# Altium integrated library Simulation Generic Components.IntLib: 218 symbols (part 1 of 7)
Pins are listed as number, name and electrical type; pins without a type are passive.

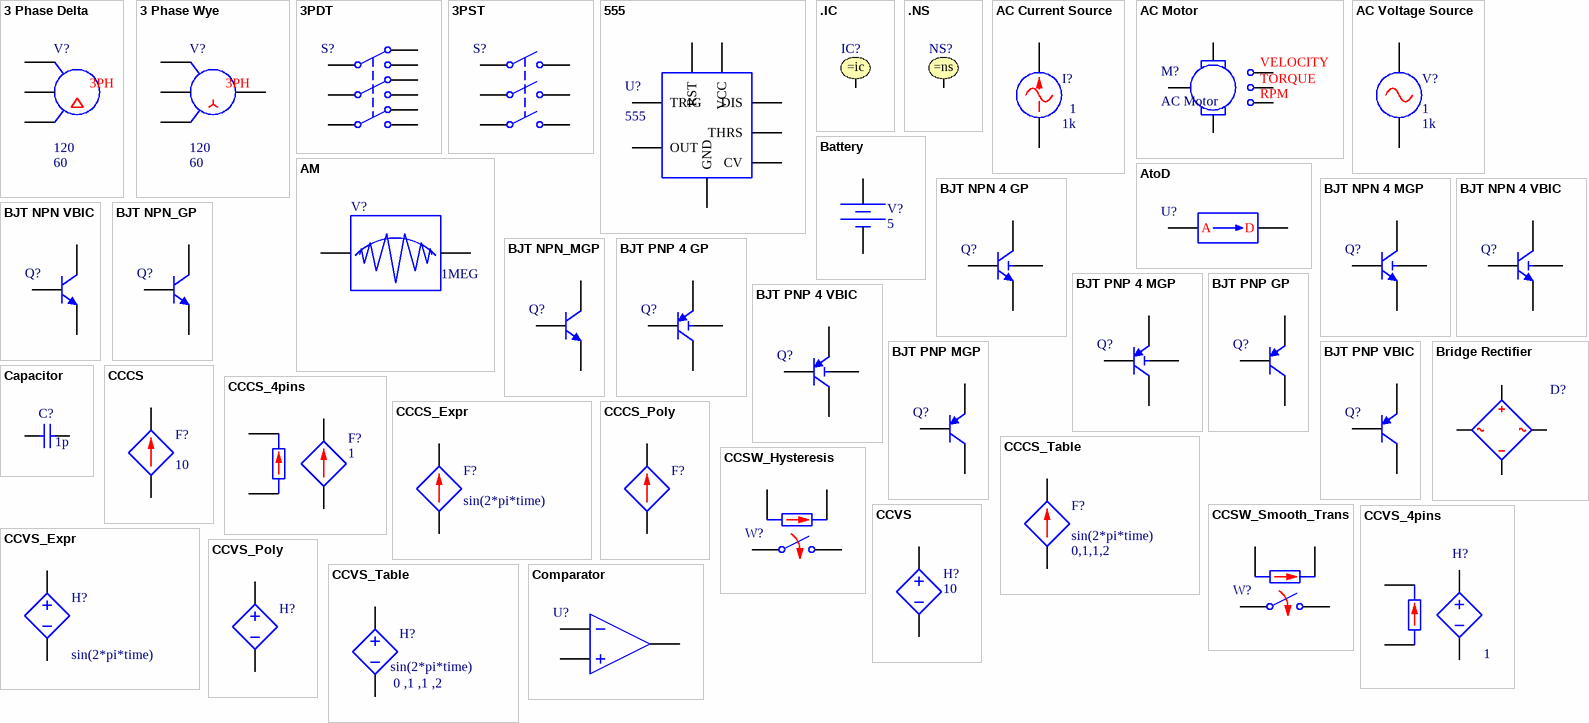
[diagram p0: symbols 3 Phase Delta to Comparator]

## 3 Phase Delta
designator V?, comment V_RMS: 120  FREQ: 60  (hidden comment: 3-Phase Delta Voltage Source)
SimulationGenericComponent: True
simulation model 3PHAZE_DELTA (THREE_PHAZE_DELTA)
pins: 1, 2, 3
text: 3PH

## 3 Phase Wye
designator V?, comment V_RMS: 120  FREQ: 60  (hidden comment: 3-Phase Wye Voltage Source)
SimulationGenericComponent: True
simulation model 3PHAZE_WYE_NEUTRAL
pins: 1, 2, 3, 4
text: 3PH

## 3PDT
designator S?, comment Triple-Pole, Double-Throw Switch  (value not drawn)
SimulationGenericComponent: True; Rclosed: 1m; Ropen: 1Meg; nodesUP_closed: 1
simulation model 3PDT_SWITCH
pins: 1, 2, 3, 4, 5, 6, 7, 8, 9

## 3PST
designator S?, comment Triple-Pole, Single-Throw Switch  (value not drawn)
SimulationGenericComponent: True; closed: 0; Rclosed: 1m; Ropen: 1Meg
simulation model 3PST_SWITCH
pins: 1, 2, 3, 4, 5, 6

## 555
designator U?
Timer 555; SimulationGenericComponent: True
simulation model 555
pins: 1 GND, 2 TRIG, 3 OUT, 4 RST, 5 CV, 6 THRS, 7 DIS, 8 VCC

## .IC
designator IC?, comment Initial Condition  (value not drawn)
SimulationGenericComponent: True
simulation model .ic (ControlStatement)
pins: 1

## .NS
designator NS?, comment Node Set  (value not drawn)
SimulationGenericComponent: True
simulation model .ns (ControlStatement)
pins: 1

## AC Current Source
designator I?  Freq: 1k  Amp: 1  (hidden comment: AC Current Source)
SimulationGenericComponent: True; DC: 0; Phase: 0
simulation model AC_CURRENT_SOURCE (AC Current Source)
pins: 1, 2

## AC Motor
designator M?
SimulationGenericComponent: True; NP: 2; J: .62; K: .97; LS: 29.4M; LR: 29.7M; RS: 67M; RR: 32M
simulation model AC_MOTOR
pins: 1, 2, 3, 4, 5, 6
text: VELOCITY; TORQUE; RPM

## AC Voltage Source
designator V?  Amp: 1  Freq: 1k  (hidden comment: AC Voltage Source)
SimulationGenericComponent: True; DC: 0; Phase: 0; Rser: 0; Cpar: 0
simulation model AC_VOLTAGE_SOURCE (C_VOLTAGE_SOURCE)
pins: 1, 2

## AM
designator V?, comment FC: 1MEG  (hidden comment: Amplitude Modulator Voltage Source)
SimulationGenericComponent: True; VC: 1; KA: 1; OFFSET: 1
simulation model AM_Voltage (AM_VOLTAGE-)
pins: 1 IN, 2 OUT

## AtoD
designator U?, comment AtoD Bridge  (value not drawn)
SimulationGenericComponent: True; fall_delay_inst: 1e-9; in_high_inst: 1; in_low_inst: 0; rise_delay_inst: 1e-9
simulation model adc_ckt (Model Description)
pins: 1, 2
text: A; D

## Battery
designator V?, comment DC Magnitude: 5  (hidden comment: Constant Voltage Source)
SimulationGenericComponent: True
simulation model Vconst (Voltage and Curent Souces)
pins: 1, 2

## BJT NPN 4 GP
designator Q?, comment Bipolar NPN 4 Pins Transistor Gummel-Poon Model  (value not drawn)
SimulationGenericComponent: True; BF: 100; AF: 0; BR: 1; EG: 1.11; FC: 0.5; IS: 1e-16; MJC: 0.33; NC: 2; NE: 1.5; TNOM: 27; VBC_MAX: 1e99; VJC: 0.75; XTI: 3; CJC: 0; CJE: 0; CJS: 0; CTC: 0; CTE: 0; CTS: 0; IKF: 0; IKR: 0; IRB: 0; ISC: 0; ISE: 0; ISS: 0; ITF: 0; KF: 0; MJE: 0.33; MJS: 0; NF: 1; NKF: 0.5; NR: 1; NS: 1; PTF: 0; RB: 0; RBM: 0; RC: 0; RE: 0; SUBS: 1; TBF1: 0; TBF2: 0; TBR1: 0; TBR2: 0; TF: 0; TIKF1: 0; TIKF2: 0; TIKR1: 0; TIKR2: 0; TIRB1: 0; TIRB2: 0; TIS1: 0; TIS2: 0; TISC1: 0; TISC2: 0; TISE1: 0; TISE2: 0; TITF1: 0; TITF2: 0; TLEV: 0; TLEVC: 0; TMJC1: 0; TMJC2: 0; TMJE1: 0; TMJE2: 0; TMJS1: 0; TMJS2: 0; TNC1: 0; TNC2: 0; TNE1: 0; TNE2: 0; TNF1: 0; TNF2: 0; TNR1: 0; TNR2: 0; TNS1: 0; TNS2: 0; TR: 0; TRB1: 0; TRB2: 0; TRC1: 0; TRC2: 0; TRE1: 0; TRE2: 0; TRM1: 0; TRM2: 0; TTF1: 0; TTF2: 0; TTR1: 0; TTR2: 0; TVAF1: 0; TVAF2: 0; TVAR1: 0; TVAR2: 0; TVJC: 0; TVJE: 0; TVJS: 0; VAF: 0; VAR: 0; VBE_MAX: 1e99; VCE_MAX: 1e99; VJE: 0.75; VJS: 0.75; VTF: 0; XCJC: 1; XTB: 0; XTF: 0
simulation model NPN_Gummel_Poon (NGSPICE_NPN_MOD_GUMMEL_POON)
pins: 1 C, 2 B, 3 E, 4 S

## BJT NPN 4 MGP
designator Q?, comment Bipolar NPN 4 Pins Transistor Modified Version of the Gummel-Poon Model  (value not drawn)
SimulationGenericComponent: True; BF: 100; AF: 0; BR: 1; EG: 1.11; FC: 0.5; IS: 1e-16; MJC: 0.33; NC: 2; NE: 1.5; TNOM: 27; VBC_MAX: 1e99; VJC: 0.75; XTI: 3; CJC: 0; CJE: 0; CJS: 0; CTC: 0; CTE: 0; CTS: 0; IKF: 0; IKR: 0; IRB: 0; ISC: 0; ISE: 0; ISS: 0; ITF: 0; KF: 0; MJE: 0.33; MJS: 0; NF: 1; NKF: 0.5; NR: 1; NS: 1; PTF: 0; RB: 0; RBM: 0; RC: 0; RE: 0; SUBS: 1; TBF1: 0; TBF2: 0; TBR1: 0; TBR2: 0; TF: 0; TIKF1: 0; TIKF2: 0; TIKR1: 0; TIKR2: 0; TIRB1: 0; TIRB2: 0; TIS1: 0; TIS2: 0; TISC1: 0; TISC2: 0; TISE1: 0; TISE2: 0; TITF1: 0; TITF2: 0; TLEV: 0; TLEVC: 0; TMJC1: 0; TMJC2: 0; TMJE1: 0; TMJE2: 0; TMJS1: 0; TMJS2: 0; TNC1: 0; TNC2: 0; TNE1: 0; TNE2: 0; TNF1: 0; TNF2: 0; TNR1: 0; TNR2: 0; TNS1: 0; TNS2: 0; TR: 0; TRB1: 0; TRB2: 0; TRC1: 0; TRC2: 0; TRE1: 0; TRE2: 0; TRM1: 0; TRM2: 0; TTF1: 0; TTF2: 0; TTR1: 0; TTR2: 0; TVAF1: 0; TVAF2: 0; TVAR1: 0; TVAR2: 0; TVJC: 0; TVJE: 0; TVJS: 0; VAF: 0; VAR: 0; VBE_MAX: 1e99; VCE_MAX: 1e99; VJE: 0.75; VJS: 0.75; VTF: 0; XCJC: 1; XTB: 0; XTF: 0
simulation model NPN_Mod_Gummel_Poon (NGSPICE_NPN_MOD_GUMMEL_POON)
pins: 1 C, 2 B, 3 E, 4 S

## BJT NPN 4 VBIC
designator Q?, comment Bipolar NPN 4 Pins Transistor VBIC Model  (value not drawn)
SimulationGenericComponent: True; AFN: 1; AJC: -0.5; ART: 0.1; AVC1: 0; EA: 1.12; FC: 0.9; IBBE: 1e-06; IBCI: 1e-16; IBEI: 1e-18; MC: 0.33; NCN: 2; NKF: 0.5; PC: 0.75; TNOM: 27; VERS: 1.2; XII: 3; AJE: -0.5; AJS: -0.5; AVC2: 0; BFN: 1; CBCO: 0; CBEO: 0; CCSO: 0; CJC: 0; CJCP: 0; CJE: 0; CJEP: 0; CTH: 0; DEAR: 0; EAIC: 1.12; EAIE: 1.12; EAIS: 1.12; EANC: 1.12; EANE: 1.12; EANS: 1.12; EAP: 1.12; EBBE: 0; GAMM: 0; HRCF: 1; IBCIP: 0; IBCN: 0; IBCNP: 0; IBEIP: 0; IBEN: 0; IBENP: 0; IKF: 0; IKP: 0; IKR: 0; IS: 1e-16; ISP: 0; ISRR: 1; ITF: 0; KFN: 0; ME: 0.33; MS: 0.33; NBBE: 1; NCI: 1; NCIP: 1; NCNP: 2; NEI: 1; NEN: 2; NF: 1; NFP: 1; NR: 1; PE: 0.75; PS: 0.75; QBM: 0; QCO: 0; QTF: 0; RBI: 0.1; RBP: 0.1; RBX: 0; RCI: 0.1; RCX: 0; RE: 0; RS: 0; RTH: 0; TAVC: 0; TD: 0; TF: 0; TNBBE: 0; TNF: 0; TR: 0; TVBBE1: 0; TVBBE2: 0; VBBE: 0; VEF: 0; VER: 0; VO: 0; VREF: 0; VRT: 0; VTF: 0; WBE: 1; WSP: 1; XIKF: 0; XIN: 3; XIS: 3; XISR: 0; XRBI: 0; XRBP: 0; XRBX: 0; XRCI: 0; XRCX: 0; XRE: 0; XRS: 0; XTF: 0; XVO: 0
simulation model NPN_VBIC (NGSPICE_NPN_MOD_GUMMEL_POON)
pins: 1 C, 2 B, 3 E, 4 S

## BJT NPN VBIC
designator Q?, comment Bipolar NPN 3 Pins Transistor VBIC Model  (value not drawn)
SimulationGenericComponent: True; AFN: 1; AJC: -0.5; ART: 0.1; AVC1: 0; EA: 1.12; FC: 0.9; IBBE: 1e-06; IBCI: 1e-16; IBEI: 1e-18; MC: 0.33; NCN: 2; NKF: 0.5; PC: 0.75; TNOM: 27; VERS: 1.2; XII: 3; AJE: -0.5; AJS: -0.5; AVC2: 0; BFN: 1; CBCO: 0; CBEO: 0; CCSO: 0; CJC: 0; CJCP: 0; CJE: 0; CJEP: 0; CTH: 0; DEAR: 0; EAIC: 1.12; EAIE: 1.12; EAIS: 1.12; EANC: 1.12; EANE: 1.12; EANS: 1.12; EAP: 1.12; EBBE: 0; GAMM: 0; HRCF: 1; IBCIP: 0; IBCN: 0; IBCNP: 0; IBEIP: 0; IBEN: 0; IBENP: 0; IKF: 0; IKP: 0; IKR: 0; IS: 1e-16; ISP: 0; ISRR: 1; ITF: 0; KFN: 0; ME: 0.33; MS: 0.33; NBBE: 1; NCI: 1; NCIP: 1; NCNP: 2; NEI: 1; NEN: 2; NF: 1; NFP: 1; NR: 1; PE: 0.75; PS: 0.75; QBM: 0; QCO: 0; QTF: 0; RBI: 0.1; RBP: 0.1; RBX: 0; RCI: 0.1; RCX: 0; RE: 0; RS: 0; RTH: 0; TAVC: 0; TD: 0; TF: 0; TNBBE: 0; TNF: 0; TR: 0; TVBBE1: 0; TVBBE2: 0; VBBE: 0; VEF: 0; VER: 0; VO: 0; VREF: 0; VRT: 0; VTF: 0; WBE: 1; WSP: 1; XIKF: 0; XIN: 3; XIS: 3; XISR: 0; XRBI: 0; XRBP: 0; XRBX: 0; XRCI: 0; XRCX: 0; XRE: 0; XRS: 0; XTF: 0; XVO: 0
simulation model NPN_VBIC (NGSPICE_NPN_MOD_GUMMEL_POON)
pins: 1 C, 2 B, 3 E

## BJT NPN_GP
designator Q?, comment Bipolar NPN 3 Pins Transistor Gummel-Poon Model  (value not drawn)
SimulationGenericComponent: True; BF: 100; AF: 0; BR: 1; EG: 1.11; FC: 0.5; IS: 1e-16; MJC: 0.33; NC: 2; NE: 1.5; TNOM: 27; VBC_MAX: 1e99; VJC: 0.75; XTI: 3; CJC: 0; CJE: 0; CJS: 0; CTC: 0; CTE: 0; CTS: 0; IKF: 0; IKR: 0; IRB: 0; ISC: 0; ISE: 0; ISS: 0; ITF: 0; KF: 0; MJE: 0.33; MJS: 0; NF: 1; NKF: 0.5; NR: 1; NS: 1; PTF: 0; RB: 0; RBM: 0; RC: 0; RE: 0; SUBS: 1; TBF1: 0; TBF2: 0; TBR1: 0; TBR2: 0; TF: 0; TIKF1: 0; TIKF2: 0; TIKR1: 0; TIKR2: 0; TIRB1: 0; TIRB2: 0; TIS1: 0; TIS2: 0; TISC1: 0; TISC2: 0; TISE1: 0; TISE2: 0; TITF1: 0; TITF2: 0; TLEV: 0; TLEVC: 0; TMJC1: 0; TMJC2: 0; TMJE1: 0; TMJE2: 0; TMJS1: 0; TMJS2: 0; TNC1: 0; TNC2: 0; TNE1: 0; TNE2: 0; TNF1: 0; TNF2: 0; TNR1: 0; TNR2: 0; TNS1: 0; TNS2: 0; TR: 0; TRB1: 0; TRB2: 0; TRC1: 0; TRC2: 0; TRE1: 0; TRE2: 0; TRM1: 0; TRM2: 0; TTF1: 0; TTF2: 0; TTR1: 0; TTR2: 0; TVAF1: 0; TVAF2: 0; TVAR1: 0; TVAR2: 0; TVJC: 0; TVJE: 0; TVJS: 0; VAF: 0; VAR: 0; VBE_MAX: 1e99; VCE_MAX: 1e99; VJE: 0.75; VJS: 0.75; VTF: 0; XCJC: 1; XTB: 0; XTF: 0
simulation model NPN_Gummel_Poon (NGSPICE_NPN_MOD_GUMMEL_POON)
pins: 1 C, 2 B, 3 E

## BJT NPN_MGP
designator Q?, comment Bipolar NPN 3 Pins Transistor Modified Version of the Gummel-Poon Model  (value not drawn)
BF: 100; AF: 0; BR: 1; EG: 1.11; FC: 0.5; IS: 1e-16; MJC: 0.33; NC: 2; NE: 1.5; TNOM: 27; VBC_MAX: 1e99; VJC: 0.75; XTI: 3; SimulationGenericComponent: True; CJC: 0; CJE: 0; CJS: 0; CTC: 0; CTE: 0; CTS: 0; IKF: 0; IKR: 0; IRB: 0; ISC: 0; ISE: 0; ISS: 0; ITF: 0; KF: 0; MJE: 0.33; MJS: 0; NF: 1; NKF: 0.5; NR: 1; NS: 1; PTF: 0; RB: 0; RBM: 0; RC: 0; RE: 0; SUBS: 1; TBF1: 0; TBF2: 0; TBR1: 0; TBR2: 0; TF: 0; TIKF1: 0; TIKF2: 0; TIKR1: 0; TIKR2: 0; TIRB1: 0; TIRB2: 0; TIS1: 0; TIS2: 0; TISC1: 0; TISC2: 0; TISE1: 0; TISE2: 0; TITF1: 0; TITF2: 0; TLEV: 0; TLEVC: 0; TMJC1: 0; TMJC2: 0; TMJE1: 0; TMJE2: 0; TMJS1: 0; TMJS2: 0; TNC1: 0; TNC2: 0; TNE1: 0; TNE2: 0; TNF1: 0; TNF2: 0; TNR1: 0; TNR2: 0; TNS1: 0; TNS2: 0; TR: 0; TRB1: 0; TRB2: 0; TRC1: 0; TRC2: 0; TRE1: 0; TRE2: 0; TRM1: 0; TRM2: 0; TTF1: 0; TTF2: 0; TTR1: 0; TTR2: 0; TVAF1: 0; TVAF2: 0; TVAR1: 0; TVAR2: 0; TVJC: 0; TVJE: 0; TVJS: 0; VAF: 0; VAR: 0; VBE_MAX: 1e99; VCE_MAX: 1e99; VJE: 0.75; VJS: 0.75; VTF: 0; XCJC: 1; XTB: 0; XTF: 0
simulation model NPN_Mod_Gummel_Poon (NGSPICE_NPN_MOD_GUMMEL_POON)
pins: 1 C, 2 B, 3 E

## BJT PNP 4 GP
designator Q?, comment Bipolar PNP 4 Pins Transistor Gummel-Poon Model  (value not drawn)
BF: 100; AF: 0; BR: 1; EG: 1.11; FC: 0.5; IS: 1e-16; MJC: 0.33; NC: 2; NE: 1.5; TNOM: 27; VBC_MAX: 1e99; VJC: 0.75; XTI: 3; SimulationGenericComponent: True; CJC: 0; CJE: 0; CJS: 0; CTC: 0; CTE: 0; CTS: 0; IKF: 0; IKR: 0; IRB: 0; ISC: 0; ISE: 0; ISS: 0; ITF: 0; KF: 0; MJE: 0.33; MJS: 0; NF: 1; NKF: 0.5; NR: 1; NS: 1; PTF: 0; RB: 0; RBM: 0; RC: 0; RE: 0; SUBS: 1; TBF1: 0; TBF2: 0; TBR1: 0; TBR2: 0; TF: 0; TIKF1: 0; TIKF2: 0; TIKR1: 0; TIKR2: 0; TIRB1: 0; TIRB2: 0; TIS1: 0; TIS2: 0; TISC1: 0; TISC2: 0; TISE1: 0; TISE2: 0; TITF1: 0; TITF2: 0; TLEV: 0; TLEVC: 0; TMJC1: 0; TMJC2: 0; TMJE1: 0; TMJE2: 0; TMJS1: 0; TMJS2: 0; TNC1: 0; TNC2: 0; TNE1: 0; TNE2: 0; TNF1: 0; TNF2: 0; TNR1: 0; TNR2: 0; TNS1: 0; TNS2: 0; TR: 0; TRB1: 0; TRB2: 0; TRC1: 0; TRC2: 0; TRE1: 0; TRE2: 0; TRM1: 0; TRM2: 0; TTF1: 0; TTF2: 0; TTR1: 0; TTR2: 0; TVAF1: 0; TVAF2: 0; TVAR1: 0; TVAR2: 0; TVJC: 0; TVJE: 0; TVJS: 0; VAF: 0; VAR: 0; VBE_MAX: 1e99; VCE_MAX: 1e99; VJE: 0.75; VJS: 0.75; VTF: 0; XCJC: 1; XTB: 0; XTF: 0
simulation model PNP_Gummel_Poon (NGSPICE_PNP_GUMMEL_POON)
pins: 1 C, 2 B, 3 E, 4 S

## BJT PNP 4 MGP
designator Q?, comment Bipolar PNP 4 Pins Transistor Modified Version of the Gummel-Poon Model  (value not drawn)
BF: 100; AF: 0; BR: 1; EG: 1.11; FC: 0.5; IS: 1e-16; MJC: 0.33; NC: 2; NE: 1.5; TNOM: 27; VBC_MAX: 1e99; VJC: 0.75; XTI: 3; SimulationGenericComponent: True; CJC: 0; CJE: 0; CJS: 0; CTC: 0; CTE: 0; CTS: 0; IKF: 0; IKR: 0; IRB: 0; ISC: 0; ISE: 0; ISS: 0; ITF: 0; KF: 0; MJE: 0.33; MJS: 0; NF: 1; NKF: 0.5; NR: 1; NS: 1; PTF: 0; RB: 0; RBM: 0; RC: 0; RE: 0; SUBS: 1; TBF1: 0; TBF2: 0; TBR1: 0; TBR2: 0; TF: 0; TIKF1: 0; TIKF2: 0; TIKR1: 0; TIKR2: 0; TIRB1: 0; TIRB2: 0; TIS1: 0; TIS2: 0; TISC1: 0; TISC2: 0; TISE1: 0; TISE2: 0; TITF1: 0; TITF2: 0; TLEV: 0; TLEVC: 0; TMJC1: 0; TMJC2: 0; TMJE1: 0; TMJE2: 0; TMJS1: 0; TMJS2: 0; TNC1: 0; TNC2: 0; TNE1: 0; TNE2: 0; TNF1: 0; TNF2: 0; TNR1: 0; TNR2: 0; TNS1: 0; TNS2: 0; TR: 0; TRB1: 0; TRB2: 0; TRC1: 0; TRC2: 0; TRE1: 0; TRE2: 0; TRM1: 0; TRM2: 0; TTF1: 0; TTF2: 0; TTR1: 0; TTR2: 0; TVAF1: 0; TVAF2: 0; TVAR1: 0; TVAR2: 0; TVJC: 0; TVJE: 0; TVJS: 0; VAF: 0; VAR: 0; VBE_MAX: 1e99; VCE_MAX: 1e99; VJE: 0.75; VJS: 0.75; VTF: 0; XCJC: 1; XTB: 0; XTF: 0
simulation model PNP_Mod_Gummel_Poon (NGSPICE_PNP_MOD_GUMMEL_POON)
pins: 1 C, 2 B, 3 E, 4 S

## BJT PNP 4 VBIC
designator Q?, comment Bipolar PNP 4 Pins Transistor VBIC Model  (value not drawn)
AFN: 1; AJC: -0.5; ART: 0.1; AVC1: 0; EA: 1.12; FC: 0.9; IBBE: 1e-06; IBCI: 1e-16; IBEI: 1e-18; MC: 0.33; NCN: 2; NKF: 0.5; PC: 0.75; TNOM: 27; VERS: 1.2; XII: 3; SimulationGenericComponent: True; AJE: -0.5; AJS: -0.5; AVC2: 0; BFN: 1; CBCO: 0; CBEO: 0; CCSO: 0; CJC: 0; CJCP: 0; CJE: 0; CJEP: 0; CTH: 0; DEAR: 0; EAIC: 1.12; EAIE: 1.12; EAIS: 1.12; EANC: 1.12; EANE: 1.12; EANS: 1.12; EAP: 1.12; EBBE: 0; GAMM: 0; HRCF: 1; IBCIP: 0; IBCN: 0; IBCNP: 0; IBEIP: 0; IBEN: 0; IBENP: 0; IKF: 0; IKP: 0; IKR: 0; IS: 1e-16; ISP: 0; ISRR: 1; ITF: 0; KFN: 0; ME: 0.33; MS: 0.33; NBBE: 1; NCI: 1; NCIP: 1; NCNP: 2; NEI: 1; NEN: 2; NF: 1; NFP: 1; NR: 1; PE: 0.75; PS: 0.75; QBM: 0; QCO: 0; QTF: 0; RBI: 0.1; RBP: 0.1; RBX: 0; RCI: 0.1; RCX: 0; RE: 0; RS: 0; RTH: 0; TAVC: 0; TD: 0; TF: 0; TNBBE: 0; TNF: 0; TR: 0; TVBBE1: 0; TVBBE2: 0; VBBE: 0; VEF: 0; VER: 0; VO: 0; VREF: 0; VRT: 0; VTF: 0; WBE: 1; WSP: 1; XIKF: 0; XIN: 3; XIS: 3; XISR: 0; XRBI: 0; XRBP: 0; XRBX: 0; XRCI: 0; XRCX: 0; XRE: 0; XRS: 0; XTF: 0; XVO: 0
simulation model PNP_VBIC (NGSPICE_PNP_VBIC)
pins: 1 C, 2 B, 3 E, 4 S

## BJT PNP GP
designator Q?, comment Bipolar PNP 3 Pins Transistor Gummel-Poon Model  (value not drawn)
BF: 100; AF: 0; BR: 1; EG: 1.11; FC: 0.5; IS: 1e-16; MJC: 0.33; NC: 2; NE: 1.5; TNOM: 27; VBC_MAX: 1e99; VJC: 0.75; XTI: 3; SimulationGenericComponent: True; CJC: 0; CJE: 0; CJS: 0; CTC: 0; CTE: 0; CTS: 0; IKF: 0; IKR: 0; IRB: 0; ISC: 0; ISE: 0; ISS: 0; ITF: 0; KF: 0; MJE: 0.33; MJS: 0; NF: 1; NKF: 0.5; NR: 1; NS: 1; PTF: 0; RB: 0; RBM: 0; RC: 0; RE: 0; SUBS: 1; TBF1: 0; TBF2: 0; TBR1: 0; TBR2: 0; TF: 0; TIKF1: 0; TIKF2: 0; TIKR1: 0; TIKR2: 0; TIRB1: 0; TIRB2: 0; TIS1: 0; TIS2: 0; TISC1: 0; TISC2: 0; TISE1: 0; TISE2: 0; TITF1: 0; TITF2: 0; TLEV: 0; TLEVC: 0; TMJC1: 0; TMJC2: 0; TMJE1: 0; TMJE2: 0; TMJS1: 0; TMJS2: 0; TNC1: 0; TNC2: 0; TNE1: 0; TNE2: 0; TNF1: 0; TNF2: 0; TNR1: 0; TNR2: 0; TNS1: 0; TNS2: 0; TR: 0; TRB1: 0; TRB2: 0; TRC1: 0; TRC2: 0; TRE1: 0; TRE2: 0; TRM1: 0; TRM2: 0; TTF1: 0; TTF2: 0; TTR1: 0; TTR2: 0; TVAF1: 0; TVAF2: 0; TVAR1: 0; TVAR2: 0; TVJC: 0; TVJE: 0; TVJS: 0; VAF: 0; VAR: 0; VBE_MAX: 1e99; VCE_MAX: 1e99; VJE: 0.75; VJS: 0.75; VTF: 0; XCJC: 1; XTB: 0; XTF: 0
simulation model PNP_Gummel_Poon (NGSPICE_PNP_GUMMEL_POON)
pins: 1 C, 2 B, 3 E

## BJT PNP MGP
designator Q?, comment Bipolar PNP 3 Pins Transistor Modified Version of the Gummel-Poon Model  (value not drawn)
BF: 100; AF: 0; BR: 1; EG: 1.11; FC: 0.5; IS: 1e-16; MJC: 0.33; NC: 2; NE: 1.5; TNOM: 27; VBC_MAX: 1e99; VJC: 0.75; XTI: 3; SimulationGenericComponent: True; CJC: 0; CJE: 0; CJS: 0; CTC: 0; CTE: 0; CTS: 0; IKF: 0; IKR: 0; IRB: 0; ISC: 0; ISE: 0; ISS: 0; ITF: 0; KF: 0; MJE: 0.33; MJS: 0; NF: 1; NKF: 0.5; NR: 1; NS: 1; PTF: 0; RB: 0; RBM: 0; RC: 0; RE: 0; SUBS: 1; TBF1: 0; TBF2: 0; TBR1: 0; TBR2: 0; TF: 0; TIKF1: 0; TIKF2: 0; TIKR1: 0; TIKR2: 0; TIRB1: 0; TIRB2: 0; TIS1: 0; TIS2: 0; TISC1: 0; TISC2: 0; TISE1: 0; TISE2: 0; TITF1: 0; TITF2: 0; TLEV: 0; TLEVC: 0; TMJC1: 0; TMJC2: 0; TMJE1: 0; TMJE2: 0; TMJS1: 0; TMJS2: 0; TNC1: 0; TNC2: 0; TNE1: 0; TNE2: 0; TNF1: 0; TNF2: 0; TNR1: 0; TNR2: 0; TNS1: 0; TNS2: 0; TR: 0; TRB1: 0; TRB2: 0; TRC1: 0; TRC2: 0; TRE1: 0; TRE2: 0; TRM1: 0; TRM2: 0; TTF1: 0; TTF2: 0; TTR1: 0; TTR2: 0; TVAF1: 0; TVAF2: 0; TVAR1: 0; TVAR2: 0; TVJC: 0; TVJE: 0; TVJS: 0; VAF: 0; VAR: 0; VBE_MAX: 1e99; VCE_MAX: 1e99; VJE: 0.75; VJS: 0.75; VTF: 0; XCJC: 1; XTB: 0; XTF: 0
simulation model PNP_Mod_Gummel_Poon (NGSPICE_PNP_MOD_GUMMEL_POON)
pins: 1 C, 2 B, 3 E

## BJT PNP VBIC
designator Q?, comment Bipolar PNP 3 Pins Transistor VBIC Model  (value not drawn)
AFN: 1; AJC: -0.5; ART: 0.1; AVC1: 0; EA: 1.12; FC: 0.9; IBBE: 1e-06; IBCI: 1e-16; IBEI: 1e-18; MC: 0.33; NCN: 2; NKF: 0.5; PC: 0.75; TNOM: 27; VERS: 1.2; XII: 3; SimulationGenericComponent: True; AJE: -0.5; AJS: -0.5; AVC2: 0; BFN: 1; CBCO: 0; CBEO: 0; CCSO: 0; CJC: 0; CJCP: 0; CJE: 0; CJEP: 0; CTH: 0; DEAR: 0; EAIC: 1.12; EAIE: 1.12; EAIS: 1.12; EANC: 1.12; EANE: 1.12; EANS: 1.12; EAP: 1.12; EBBE: 0; GAMM: 0; HRCF: 1; IBCIP: 0; IBCN: 0; IBCNP: 0; IBEIP: 0; IBEN: 0; IBENP: 0; IKF: 0; IKP: 0; IKR: 0; IS: 1e-16; ISP: 0; ISRR: 1; ITF: 0; KFN: 0; ME: 0.33; MS: 0.33; NBBE: 1; NCI: 1; NCIP: 1; NCNP: 2; NEI: 1; NEN: 2; NF: 1; NFP: 1; NR: 1; PE: 0.75; PS: 0.75; QBM: 0; QCO: 0; QTF: 0; RBI: 0.1; RBP: 0.1; RBX: 0; RCI: 0.1; RCX: 0; RE: 0; RS: 0; RTH: 0; TAVC: 0; TD: 0; TF: 0; TNBBE: 0; TNF: 0; TR: 0; TVBBE1: 0; TVBBE2: 0; VBBE: 0; VEF: 0; VER: 0; VO: 0; VREF: 0; VRT: 0; VTF: 0; WBE: 1; WSP: 1; XIKF: 0; XIN: 3; XIS: 3; XISR: 0; XRBI: 0; XRBP: 0; XRBX: 0; XRCI: 0; XRCX: 0; XRE: 0; XRS: 0; XTF: 0; XVO: 0
simulation model PNP_VBIC (NGSPICE_PNP_VBIC)
pins: 1 C, 2 B, 3 E

## Bridge Rectifier
designator D?, comment Four Diodes Bridge Rectifier  (value not drawn)
area: 1; temp: 27; dtemp: 0; EG: 1.11; FC: 0.5; IBV: 100p; IS: 10f; NTUN: 30; XTITUN: 3; MJSW: 0.33; BV_MAX: 1e99; SimulationGenericComponent: True; pj: 1; AF: 1; BV: 0; CJO: 0; IBVL: 0; IKF: 0; IKR: 0; JSW: 0; JTUN: 0; JTUNSW: 0; KEG: 1; CJP: 0; FCS: 0.5; PHP: 1; ISR: 0; KF: 0; N: 1; NBV: 1; NBVL: 1; NR: 1; NS: 1; RS: 0; TBV1: 0; TBV2: 0; TIKF: 0; TRS1: 0; TRS2: 0; TT: 0; VJ: 1; XTI: 3; TNOM: 27; TM1: 0; TM2: 0; TTT1: 0; TTT2: 0; TLEV: 0; TLEVC: 0; CTA: 0; CTP: 0; TCV: 0; TVJ: 0; TPHP: 0; FV_MAX: 1e99; M: 0.5
simulation model Bridge_Rectifier (BRIDGE_RECTIFIER)
pins: 1, 2, 3 POS, 4 NEG

## Capacitor
designator C?  value 1p  (hidden comment: Capacitor)
SimulationGenericComponent: True
simulation model C_Capacitor_Default (CAP)
pins: 1, 2

## CCCS
designator F?, comment Gain: 10  (hidden comment: Current Controlled Current Source)
SimulationGenericComponent: True; Voltage Source Name: V1
simulation model Fgain (Current Controlled Current Souce)
pins: 1, 2

## CCCS_4pins
designator F?, comment Gain: 1  (hidden comment: Current Controlled Current Source)
SimulationGenericComponent: True
simulation model Current_Controlled_Current_Source_4pins (Current Controlled Current Souce)
pins: 1, 2, 3, 4

## CCCS_Expr
designator F?, comment Expression: sin(2*pi*time)  (hidden comment: Current Controlled Current Source with an Arbitrary Expression)
SimulationGenericComponent: True
simulation model Fvalue (Current Controlled Current Souce)
pins: 1, 2

## CCCS_Poly
designator F?, comment Current Controlled Current Source with SPICE POLY function  (value not drawn)
SimulationGenericComponent: True; Order: 1; Voltage Source Names: v1; Coefficients List: 0 1
simulation model Fpoly (Current Controlled Current Souce)
pins: 1, 2

## CCCS_Table
designator F?, comment Expression: sin(2*pi*time)  Table: 0,1,1,2  (hidden comment: Current Controlled Current Source with Table function)
SimulationGenericComponent: True
simulation model Ftable (Current Controlled Current Souce)
pins: 1, 2

## CCSW_Hysteresis
designator W?, comment Current Controlled Switch with Hysteresis  (value not drawn)
Initial Condition: ON; IH: 0; ROFF: 1Meg; RON: 1m; SimulationGenericComponent: True; IT: 0
simulation model Current_Controlled_Switch_Hysteresis (CURRENT_CONTROLLED_SWITCH_HYSTERESIS)
pins: 1, 2, 3, 4

## CCSW_Smooth_Trans
designator W?, comment Current Controlled Switch with Smooth Transition  (value not drawn)
SimulationGenericComponent: True; IOFF: 0; ION: 1m; ROFF: 1Meg; RON: 1
simulation model Current_Controlled_Switch_Smooth_Trans (CURRENT_CONTROLLED_SWITCH_SMOOTH_TRANS)
pins: 1, 2, 3, 4

## CCVS
designator H?, comment Gain: 10  (hidden comment: Current Controlled Voltage Source)
SimulationGenericComponent: True; Voltage Source Name: V1
simulation model Hgain
pins: 1, 2

## CCVS_4pins
designator H?, comment Gain: 1  (hidden comment: Current Controlled Voltage Source)
SimulationGenericComponent: True
simulation model Current_Controlled_Voltage_Source_4pins
pins: 1, 2, 3, 4

## CCVS_Expr
designator H?, comment Expression: sin(2*pi*time)  (hidden comment: Current Controlled Voltage Source with an Arbitrary Expression)
SimulationGenericComponent: True
simulation model Hvalue
pins: 1, 2

## CCVS_Poly
designator H?, comment Current Controlled Voltage Source with SPICE POLY function  (value not drawn)
SimulationGenericComponent: True; Order: 1; Voltage Source Names: v1; Coefficients List: 0 1
simulation model Hpoly
pins: 1, 2

## CCVS_Table
designator H?, comment Expression: sin(2*pi*time)  Table: 0 ,1 ,1 ,2  (hidden comment: Current Controlled Voltage Source with Table function)
SimulationGenericComponent: True
simulation model Htable
pins: 1, 2

## Comparator
designator U?, comment Ideal Comparator  (value not drawn)
VHIGH: 5; VLOW: 100m; VHYS: 50m; SimulationGenericComponent: True
simulation model IDEAL_COMPARATOR_BASSO_HYS (IDEAL_COMPARATOR_HYS)
pins: 1 IN-, 2 IN+, 3 OUT

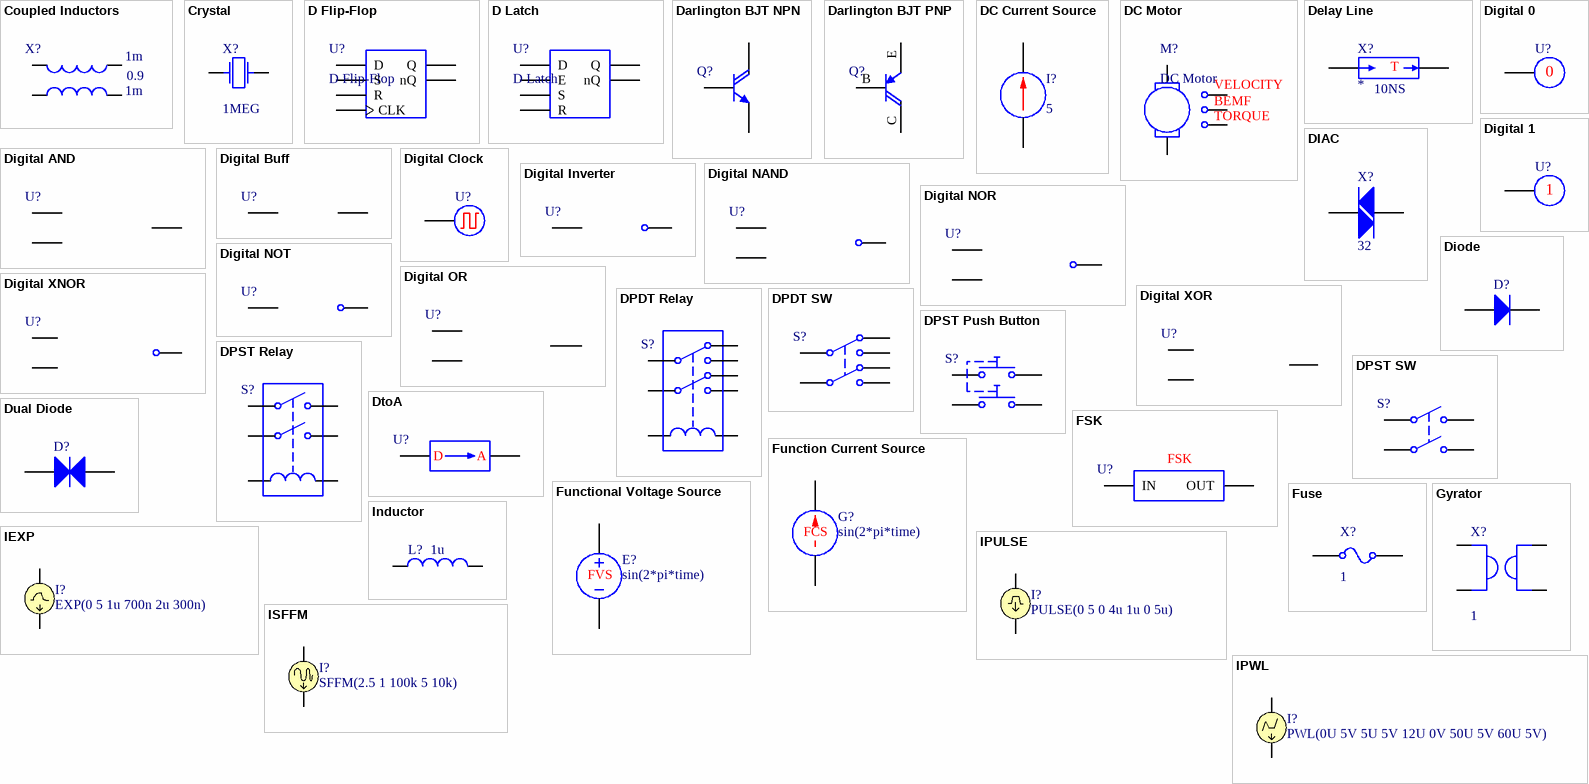
[diagram p1: symbols Coupled Inductors to ISFFM]

## Coupled Inductors
designator X?, comment L1: 1m  Coupling_Factor: 0.9  (hidden comment: Pair of Coupled Inductors)
SimulationGenericComponent: True; L2: 1m
simulation model Coupled_Inductors (Model Description)
pins: 1, 2, 3, 4

## Crystal
designator X?  F0: 1MEG  (hidden comment: Crystal)
R: 500; Q: 50K; SimulationGenericComponent: True
simulation model CRYSTAL
pins: 1, 2

## D Flip-Flop
designator U?
SimulationGenericComponent: True; clk_delay_inst: 1n; data_load_inst: 1p; set_delay_inst: 1n; reset_delay_inst: 1n; clk_load_inst: 1p; set_load: 1p; reset_load_inst: 1p; rise_delay_inst: 1n; fall_delay_inst: 1n
simulation model d_flip_flop (Model Description)
pins: 1 D, 2 S, 3 R, 4 Q, 5 nQ, 6 CLK

## D Latch
designator U?
Digital D Latch; SimulationGenericComponent: True; data_delay_inst: 1n; data_load_inst: 1p; enable_delay_inst: 1n; set_delay_inst: 1n; reset_delay_inst: 1n; enable_load_inst: 1p; set_load_inst: 1p; reset_load_inst: 1p; rise_delay_inst: 1n; fall_delay_inst: 1n
simulation model d_latch (Model Description)
pins: 1 D, 2 E, 3 S, 4 R, 5 Q, 6 nQ

## Darlington BJT NPN
designator Q?, comment Darlington NPN Bipolar Transistor  (value not drawn)
subs: 1; tnom: 27; is: 1e-16; bf: 100; vaf: 0; ne: 1.5; nc: 2; vje: 0.75; mje: 0.33; eg: 1.11; xti: 3; fc: 0.5; vbe_max: 1e99; SimulationGenericComponent: True; nf: 1; ikf: 0; ise: 0; br: 1; nr: 1; var: 0; ikr: 0; isc: 0; rb: 0; irb: 0; rbm: 0; re: 0; rc: 0; cje: 0; tf: 0; xtf: 0; vtf: 0; itf: 0; ptf: 0; cjc: 0; vjc: 0.75; mjc: 0.33; xcjc: 1; tr: 0; cjs: 0; vjs: 0.75; mjs: 0; xtb: 0; kf: 0; af: 0; iss: 0; ns: 1; tlev: 0; tlevc: 0; tbf1: 0; tbf2: 0; tbr1: 0; tbr2: 0; tikf1: 0; tikf2: 0; tikr1: 0; tikr2: 0; tirb1: 0; tirb2: 0; tnc1: 0; tnc2: 0; tne1: 0; tne2: 0; tnf1: 0; tnf2: 0; tnr1: 0; tnr2: 0; trb1: 0; trb2: 0; trc1: 0; trc2: 0; tre1: 0; tre2: 0; trm1: 0; trm2: 0; tvaf1: 0; tvaf2: 0; tvar1: 0; tvar2: 0; ctc: 0; cte: 0; cts: 0; tvjc: 0; tvje: 0; tvjs: 0; titf1: 0; titf2: 0; ttf1: 0; ttf2: 0; ttr1: 0; ttr2: 0; tmje1: 0; tmje2: 0; tmjc1: 0; tmjc2: 0; tmjs1: 0; tmjs2: 0; tns1: 0; tns2: 0; nkf: 0.5; tis1: 0; tis2: 0; tise1: 0; tise2: 0; tisc1: 0; tisc2: 0; vbc_max: 1e99; vce_max: 1e99; cn: 0; d: 0; gamma: 0; qco: 0; quasimod: 0; rco: 0; vg: 0; vo: 0
simulation model DARLINGTON_NPN
pins: 1 C, 2 B, 3 E

## Darlington BJT PNP
designator Q?, comment Darlington PNP Bipolar Transistor  (value not drawn)
subs: 1; tnom: 27; is: 1e-16; bf: 100; vaf: 0; ne: 1.5; nc: 2; vje: 0.75; mje: 0.33; eg: 1.11; xti: 3; fc: 0.5; vbe_max: 1e99; SimulationGenericComponent: True; nf: 1; ikf: 0; ise: 0; br: 1; nr: 1; var: 0; ikr: 0; isc: 0; rb: 0; irb: 0; rbm: 0; re: 0; rc: 0; cje: 0; tf: 0; xtf: 0; vtf: 0; itf: 0; ptf: 0; cjc: 0; vjc: 0.75; mjc: 0.33; xcjc: 1; tr: 0; cjs: 0; vjs: 0.75; mjs: 0; xtb: 0; kf: 0; af: 0; iss: 0; ns: 1; tlev: 0; tlevc: 0; tbf1: 0; tbf2: 0; tbr1: 0; tbr2: 0; tikf1: 0; tikf2: 0; tikr1: 0; tikr2: 0; tirb1: 0; tirb2: 0; tnc1: 0; tnc2: 0; tne1: 0; tne2: 0; tnf1: 0; tnf2: 0; tnr1: 0; tnr2: 0; trb1: 0; trb2: 0; trc1: 0; trc2: 0; tre1: 0; tre2: 0; trm1: 0; trm2: 0; tvaf1: 0; tvaf2: 0; tvar1: 0; tvar2: 0; ctc: 0; cte: 0; cts: 0; tvjc: 0; tvje: 0; tvjs: 0; titf1: 0; titf2: 0; ttf1: 0; ttf2: 0; ttr1: 0; ttr2: 0; tmje1: 0; tmje2: 0; tmjc1: 0; tmjc2: 0; tmjs1: 0; tmjs2: 0; tns1: 0; tns2: 0; nkf: 0.5; tis1: 0; tis2: 0; tise1: 0; tise2: 0; tisc1: 0; tisc2: 0; vbc_max: 1e99; vce_max: 1e99; cn: 0; d: 0; gamma: 0; qco: 0; quasimod: 0; rco: 0; vg: 0; vo: 0
simulation model DARLINGTON_PNP
pins: B, C, E

## DC Current Source
designator I?  DC: 5  (hidden comment: DC Current Source)
SimulationGenericComponent: True
simulation model DC_CURRENT_SOURCE (DC Current Source)
pins: 1 +, 2 -

## DC Motor
designator M?
LA: 1.5M; RA: 0.5; KE: 0.05; JM: 250U; BM: 0.1M; TL: 0; SimulationGenericComponent: True; KT: 0.05
simulation model DC_MOTOR (Motors)
pins: 1, 2, 3, 4, 5
text: VELOCITY; BEMF; TORQUE

## Delay Line
designator X?  DELAY: 10NS
Delay Line; SimulationGenericComponent: True
simulation model DELAY (Delay Line)
pins: 1 IN, 2 OUT
text: T

## DIAC
designator X?, comment VK: 32  (hidden comment: DIAC Thyristror)
RS: 10; SimulationGenericComponent: True
simulation model DIAC
pins: 1 A, 2 K

## Digital 0
designator U?, comment Digital Zero Generator  (value not drawn)
SimulationGenericComponent: True; adc_rise_delay_inst: 1n; adc_fall_delay_inst: 1n
simulation model digital_0 (Model Description)
pins: 1
text: 0

## Digital 1
designator U?, comment Digital One Generator  (value not drawn)
SimulationGenericComponent: True; adc_rise_delay_inst: 1n; adc_fall_delay_inst: 1n
simulation model digital_1 (Model Description)
pins: 1

## Digital AND
designator U?, comment Digital AND Gate  (value not drawn)
rise_delay_inst: 1n; input_load_inst: 1p; SimulationGenericComponent: True; fall_delay_inst: 1n
simulation model AND2 (Model Description)
pins: 1, 2, 3

## Digital Buff
designator U?, comment Digital Buffers  (value not drawn)
rise_delay_inst: 1n; input_load_inst: 1p; SimulationGenericComponent: True; fall_delay_inst: 1n
simulation model BUFFER (Model Description)
pins: 1, 2

## Digital Clock
designator U?  (value not drawn)
SimulationGenericComponent: True; vlow: 0; vhigh: 1; trise: 1n; pwidth: 0.5e-3; period: 1e-3; adc_rise_delay_inst: 1e-9; tdelay: 0; tfall: 1n; phase: 0; adc_in_low_inst: 0; adc_in_high_inst: 1; adc_fall_delay_inst: 1e-9
simulation model digital_oscillator_ckt (Model Description)
pins: 1

## Digital Inverter
designator U?  (value not drawn)
rise_delay_inst: 1n; input_load_inst: 1p; SimulationGenericComponent: True; fall_delay_inst: 1n
simulation model INVERTER
pins: 1, 2

## Digital NAND
designator U?, comment Digital NAND Gate  (value not drawn)
rise_delay_inst: 1n; input_load_inst: 1p; SimulationGenericComponent: True; fall_delay_inst: 1n
simulation model NAND2 (Model Description)
pins: 1, 2, 3

## Digital NOR
designator U?, comment Digital NOR Gate  (value not drawn)
rise_delay_inst: 1n; input_load_inst: 1p; SimulationGenericComponent: True; fall_delay_inst: 1n
simulation model NOR2 (Model Description)
pins: 1, 2, 3

## Digital NOT
designator U?, comment Digital NOT Gate  (value not drawn)
rise_delay_inst: 1n; input_load_inst: 1p; SimulationGenericComponent: True; fall_delay_inst: 1n
simulation model INVERTER (Model Description)
pins: 1, 2

## Digital OR
designator U?, comment Digital OR Gate  (value not drawn)
rise_delay_inst: 1n; input_load_inst: 1p; SimulationGenericComponent: True; fall_delay_inst: 1n
simulation model OR2 (Model Description)
pins: 1, 2, 3

## Digital XNOR
designator U?, comment Digital XNOR Gate  (value not drawn)
rise_delay_inst: 1n; input_load_inst: 1p; SimulationGenericComponent: True; fall_delay_inst: 1n
simulation model XNOR2 (Model Description)
pins: 1, 2, 3

## Digital XOR
designator U?, comment Digital XOR Gate  (value not drawn)
rise_delay_inst: 1n; input_load_inst: 1p; SimulationGenericComponent: True; fall_delay_inst: 1n
simulation model XOR2 (Model Description)
pins: 1, 2, 3

## Diode
designator D?  (value not drawn)
AF: 1; BV: 0; BV_MAX: 1e99; EG: 1.11; FC: 0.5; IBV: 0.001; ISR: 1e-14; MJSW: 0.33; NTUN: 30; TNOM: 27; XTI: 3; SimulationGenericComponent: True; CJO: 0; CJP: 0; CTA: 0; CTP: 0; FCS: 0.5; FV_MAX: 1e99; IKF: 0; IKR: 0; JSW: 0; JTUN: 0; JTUNSW: 0; KEG: 1; KF: 0; LEVEL: 1; N: 1; NBV: 1; NR: 1; NS: 1; PHP: 1; RS: 0; TCV: 0; TLEV: 0; TLEVC: 0; TM1: 0; TM2: 0; TPB: 0; TPHP: 0; TRS: 0; TRS2: 0; TT: 0; TTT1: 0; TTT2: 0; VJ: 1; XTITUN: 3; IS: 1e-14
simulation model diode (Diodes)
pins: 1 A, 2 K

## DPDT Relay
designator S?, comment Double-Pole, Double-Throw Relay  (value not drawn)
L_C: 1u; R_C: 100; RON: 1; ROFF: 1e12; ION: 1m; IOFF: 0; SimulationGenericComponent: True
simulation model DPDT_RELAY
pins: 1, 2, 3, 4, 5, 6, 7, 8

## DPDT SW
designator S?, comment Double-Pole, Double-Throw Switch  (value not drawn)
nodesUP_closed: 1; Rclosed: 1m; Ropen: 1Meg; SimulationGenericComponent: True
simulation model DPDT_SWITCH
pins: 1, 2, 3, 4, 5, 6

## DPST Push Button
designator S?, comment Double-Pole, Single-Throw Button  (value not drawn)
closed: 0; Rclosed: 1m; Ropen: 1Meg; SimulationGenericComponent: True
simulation model DPST_PUSH_BUTTON
pins: 1, 2, 3, 4

## DPST Relay
designator S?, comment Double-Pole, Single-Throw Relay  (value not drawn)
L_C: 1u; R_C: 100; RON: 1; ROFF: 1e12; ION: 1m; IOFF: 0; SimulationGenericComponent: True
simulation model DPST_RELAY
pins: 1, 2, 3, 4, 5, 6

## DPST SW
designator S?, comment Doubl-Pole, Single-Throw Switch  (value not drawn)
closed: 0; Rclosed: 1m; Ropen: 1Meg; SimulationGenericComponent: True
simulation model DPST_SWITCH
pins: 1, 2, 3, 4

## DtoA
designator U?, comment DtoA Bridge  (value not drawn)
SimulationGenericComponent: True; out_high_inst: 1; out_low_inst: 0; out_undef_inst: 0.5; t_fall_inst: 1e-9; input_load_inst: 1e-12; t_rise_inst: 1e-9
simulation model dac_ckt (Model Description)
pins: 1, 2
text: D; A

## Dual Diode
designator D?  (value not drawn)
SimulationGenericComponent: True; M: 0.5; area: 1; temp: 27; dtemp: 0; EG: 1.11; IBV: 100p; IS: 10f; NTUN: 30; XTITUN: 3; MJSW: 0.33; BV_MAX: 1e99; pj: 1; BV: 0; CJO: 0; AF: 1; FC: 0.5; IBVL: 0; IKF: 0; JSW: 0; IKR: 0; JTUN: 0; JTUNSW: 0; KEG: 1; CJP: 0; FCS: 0.5; PHP: 1; KF: 0; N: 1; ISR: 0; NBV: 1; NBVL: 1; NS: 1; NR: 1; RS: 0; TBV1: 0; TBV2: 0; TRS1: 0; TIKF: 0; TRS2: 0; VJ: 1; TT: 0; XTI: 3; TNOM: 27; TM1: 0; TM2: 0; TTT1: 0; TLEV: 0; TTT2: 0; TLEVC: 0; CTA: 0; CTP: 0; TCV: 0; TVJ: 0; TPHP: 0; FV_MAX: 1e99
simulation model Dual_Diode (DUAL_DIODE)
pins: 1, 2

## FSK
designator U?, comment Frequency-Shift Keying Modulator  (value not drawn)
WMAG: 1; NC0: 2; TB: 10U; SimulationGenericComponent: True; NC1: 2
simulation model FSK
pins: 1 IN, 2 OUT

## Function Current Source
designator G?, comment Expression: sin(2*pi*time)  (hidden comment: Functional Current Source)
SimulationGenericComponent: True
simulation model Gvalue (Model Description)
pins: 1 +, 2 -
text: FCS

## Functional Voltage Source
designator E?  Expression: sin(2*pi*time)  (hidden comment: Functional Voltage Source)
SimulationGenericComponent: True
simulation model Evalue (Model Description)
pins: 1 +, 2 -
text: FVS

## Fuse
designator X?  CURRENT: 1  (hidden comment: Fuse)
RESISTANCE: 1m; SimulationGenericComponent: True
simulation model FUSE
pins: 1, 2

## Gyrator
designator X?  G: 1  (hidden comment: Gyrator)
SimulationGenericComponent: True
simulation model GYRATOR
pins: 1, 2, 3, 4

## IEXP
designator I?, comment EXP(0 5 1u 700n 2u 300n)
Exponential Current Source; Initial Value: 0; Pulsed Value: 5; AC Magnitude: 1; Published: 8-Jun-2000; LatestRevisionDate: 15-Nov-2004; LatestRevisionNote: Corrected Netlist.; PackageReference: Not Applicable; Publisher: Altium Limited; Rise Delay Time: 1u; Rise Time Constant: 700n; Fall Delay Time: 2u; Fall Time Constant: 300n; DC Magnitude: 0; AC Phase: 0
simulation model IEXP
pins: 1, 2

## Inductor
designator L?  value 1u  (hidden comment: Inductor)
SimulationGenericComponent: True
simulation model L_Inductor_Default (INDUCTOR)
pins: 1, 2

## IPULSE
designator I?, comment PULSE(0 5 0 4u 1u 0 5u)
Pulse Current Source; Initial Value: 0; Pulsed Value: 5; AC Magnitude: 1; Published: 8-Jun-2000; LatestRevisionDate: 15-Nov-2004; LatestRevisionNote: Corrected Netlist.; PackageReference: Not Applicable; Publisher: Altium Limited; Rise Time: 4u; Fall Time: 1u; Pulse Width: 0; Period: 5u; DC Magnitude: 0; AC Phase: 0
simulation model IPULSE
pins: 1, 2

## IPWL
designator I?, comment PWL(0U 5V 5U 5V 12U 0V 50U 5V 60U 5V)
Piecewise Linear Current Source; Sim Note: To add model file containing time-current pairs of values, enter model location under "General Tab" in "Full Path" box.; DC Magnitude: 0; AC Magnitude: 1; Published: 8-Jun-2000; LatestRevisionDate: 17-Jul-2002; LatestRevisionNote: Re-released for DXP Platform.; PackageReference: Not Applicable; Publisher: Altium Limited; Time-Value Pairs: 0U 5V 5U 5V 12U 0V 50U 5V 60U 5V; AC Phase: 0
simulation model IPWL
pins: 1, 2

## ISFFM
designator I?, comment SFFM(2.5 1 100k 5 10k)
Frequency-Modulated Sinusoidal Current Source; Offset: 2.5; Amplitude: 1; Modulation Index: 5; Carrier Phase: 0; Published: 8-Jun-2000; LatestRevisionDate: 17-Jul-2002; LatestRevisionNote: Re-released for DXP Platform.; PackageReference: Not Applicable; Publisher: Altium Limited; Carrier Frequency: 100k; Signal Frequency: 10k; Signal Phase: 0; DC Magnitude: 0; AC Magnitude: 1; AC Phase: 0
simulation model ISFFM
pins: 1, 2

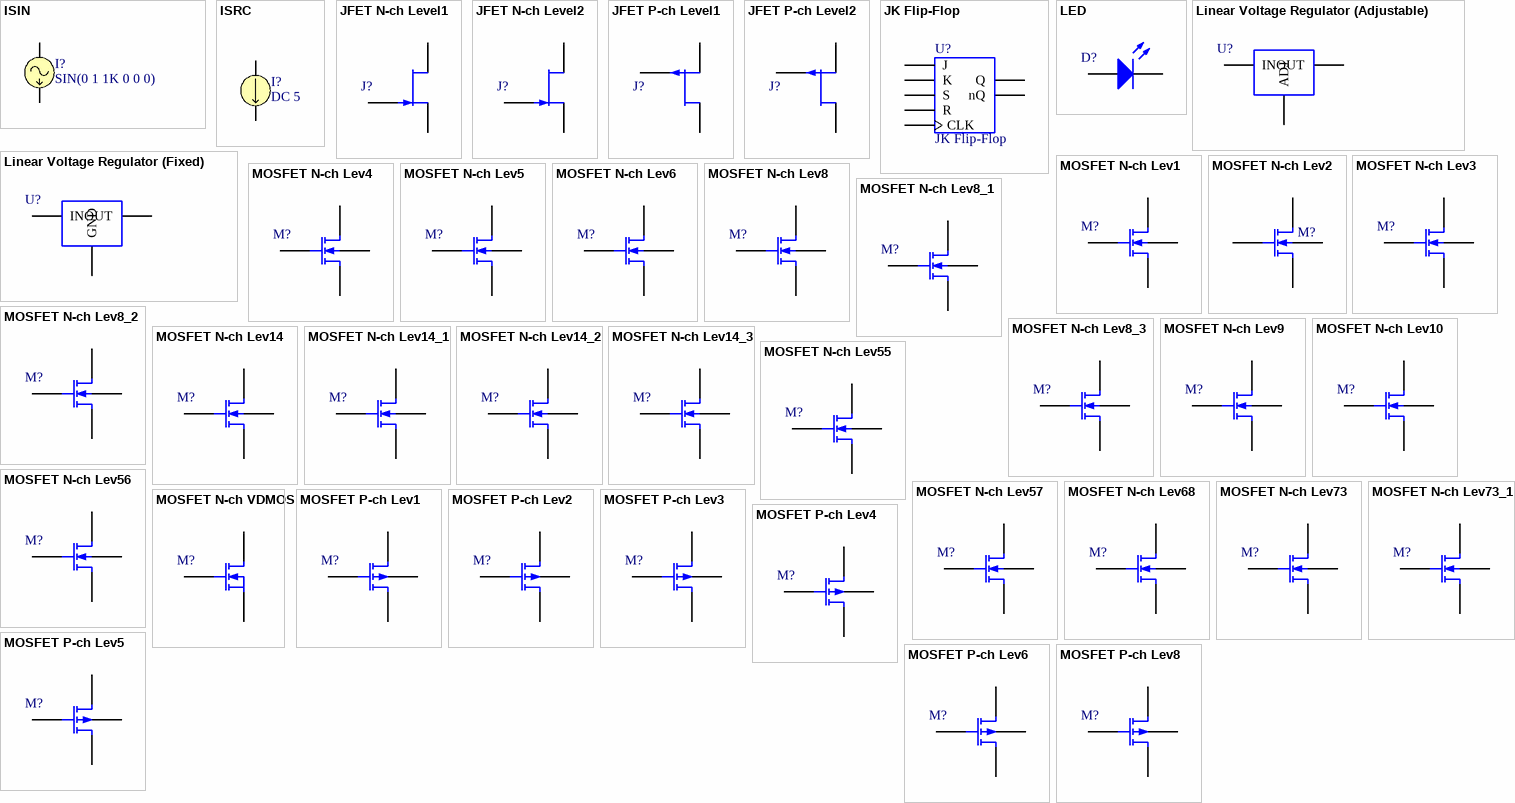
[diagram p2: symbols ISIN to MOSFET P-ch Lev8]

## ISIN
designator I?, comment SIN(0 1 1K 0 0 0)
Sinusoidal Current Source; Offset: 0; Amplitude: 1; Published: 8-Jun-2000; LatestRevisionDate: 15-Nov-2004; LatestRevisionNote: Corrected Netlist.; PackageReference: Not Applicable; Publisher: Altium Limited; Frequency: 1K; Delay: 0; Damping Factor: 0; Phase: 0; DC Magnitude: 0; AC Magnitude: 1; AC Phase: 0
simulation model ISIN
pins: 1, 2

## ISRC
designator I?, comment DC 5
Current Source; Note: PCB Footprint - Not required; AC Magnitude: 1; AC Phase: 0; Value: 5; Published: 8-Jun-2000; LatestRevisionDate: 17-Jul-2002; LatestRevisionNote: Re-released for DXP Platform.; PackageReference: Not Applicable; Publisher: Altium Limited
simulation model ISRC
pins: 1, 2

## JFET N-ch Level1
designator J?, comment N-channel Junction gate Field-Effect Transistor Level1  (value not drawn)
AF: 1; BETA: 0.0001; BEX: 0; FC: 0.5; IS: 1e-14; NLEV: 2; TNOM: 27; VT0: -2; SimulationGenericComponent: True; B: 1; CGD: 0; CGS: 0; GDSNOI: 1; KF: 0; LAMBDA: 0; PB: 1; RD: 0; RS: 0; TCV: 0
simulation model NJFET_Level1 (Shichman and Hodges Model)
pins: 1 D, 2 G, 3 S

## JFET N-ch Level2
designator J?, comment N-channel Junction gate Field-Effect Transistor Level2  (value not drawn)
TNOM: 27; SimulationGenericComponent: True
simulation model NJFET_Level2 (Parker Skellern Model)
pins: 1 D, 2 G, 3 S

## JFET P-ch Level1
designator J?, comment P-channel Junction gate Field-Effect Transistor Level1  (value not drawn)
AF: 1; BETA: 0.0001; BEX: 0; FC: 0.5; IS: 1e-14; NLEV: 2; TNOM: 27; VT0: -2; SimulationGenericComponent: True; B: 1; CGD: 0; CGS: 0; GDSNOI: 1; KF: 0; LAMBDA: 0; PB: 1; RD: 0; RS: 0; TCV: 0
simulation model PJFET_Level1 (Shichman and Hodges Model)
pins: 1 D, 2 G, 3 S

## JFET P-ch Level2
designator J?, comment P-channel Junction gate Field-Effect Transistor Level2  (value not drawn)
TNOM: 27; SimulationGenericComponent: True
simulation model PJFET_Level2 (Parker Skellern Model)
pins: 1 D, 2 G, 3 S

## JK Flip-Flop
designator U?
clk_delay_inst: 1n; jk_load_inst: 1p; SimulationGenericComponent: True; set_delay_inst: 1n; reset_delay_inst: 1n; clk_load_inst: 1p; set_load_inst: 1p; reset_load_inst: 1p; rise_delay_inst: 1n; fall_delay_inst: 1n
simulation model jk_flip_flop (Model Description)
pins: 1 J, 2 K, 3 S, 4 R, 5 CLK, 6 Q, 7 nQ

## LED
designator D?, comment Light-Emitting Diode  (value not drawn)
AF: 1; BV: 0; BV_MAX: 1e99; EG: 1.11; FC: 0.5; IBV: 0.001; IS: 1e-14; MJSW: 0.33; NTUN: 30; TNOM: 27; XTI: 3; SimulationGenericComponent: True; CJO: 0; CJP: 0; CTA: 0; CTP: 0; FCS: 0.5; FV_MAX: 1e99; IKF: 0; IKR: 0; ISR: 1e-14; JSW: 0; JTUN: 0; JTUNSW: 0; KEG: 1; KF: 0; LEVEL: 1; N: 1; NBV: 1; NR: 1; NS: 1; PHP: 1; RS: 0; TCV: 0; TLEV: 0; TLEVC: 0; TM1: 0; TM2: 0; TPB: 0; TPHP: 0; TRS: 0; TRS2: 0; TT: 0; TTT1: 0; TTT2: 0; VJ: 1; XTITUN: 3
simulation model diode (Diodes)
pins: 1 A, 2 K

## Linear Voltage Regulator (Adjustable)
designator U?, comment Positive Adjustable Voltage Regulator  (value not drawn)
SimulationGenericComponent: True
simulation model LM317 (POSITIVE ADJUSTABLE VOLTAGE REGULATOR)
pins: 1 IN, 2 ADJ, 3 OUT

## Linear Voltage Regulator (Fixed)
designator U?, comment Positive Fixed Voltage regulator  (value not drawn)
Av_feedback: 1665; R1_Value: 1020; SimulationGenericComponent: True
simulation model LM7805 (Positive Fixed Voltage regulator)
pins: 1 IN, 2 GND, 3 OUT

## MOSFET N-ch Lev1
designator M?, comment N-channel MOS1 MOSFET Shichman and Hodges Model  (value not drawn)
CBD: 0; FC: 0.5; IS: 1e-14; KP: 2e-05; PB: 0.8; PHI: 0.6; TNOM: 27; SimulationGenericComponent: True; CBS: 0; CGBO: 0; CGDO: 0; CGSO: 0; CJ: 0; CJSW: 0; GAMMA: 0; JS: 0; LAMBDA: 0; LD: 0; MJ: 0.5; MJSW: 0.5; NSS: 0; NSUB: 0; RD: 0; RS: 0; RSH: 0; TOX: 0; TPG: 0; U0: 0; VTO: 0
simulation model NMOSFET_Level1 (MOS1 Shichman and Hodges Models)
pins: 1 D, 2 G, 3 S, 4 B

## MOSFET N-ch Lev2
designator M?, comment N-channel MOSFET MOS2 Grove-Frohman Model  (value not drawn)
AF: 1; CBD: 0; FC: 0.5; IS: 1e-14; KP: 2.07189e-05; MJSW: 0.33; PB: 0.8; PHI: 0.6; TNOM: 27; TOX: 1e-07; U0: 600; UCRIT: 10000; SimulationGenericComponent: True; CBS: 0; CGBO: 0; CGDO: 0; CGSO: 0; CJ: 0; CJSW: 0; DELTA: 0; GAMMA: 0; JS: 0; KF: 0; LAMBDA: 0; LD: 0; MJ: 0.5; NEFF: 1; NFS: 0; NSS: 0; NSUB: 0; RD: 0; RS: 0; RSH: 0; TPG: 0; UEXP: 0; VMAX: 0; VTO: 0; XJ: 0
simulation model NMOSFET_Level2 (MOS2 Grove-Frohman  Model)
pins: 1 D, 2 G, 3 S, 4 B

## MOSFET N-ch Lev3
designator M?, comment N-channel MOSFET MOS3 Model  (value not drawn)
AF: 1; ALPHA: 0; FC: 0.5; IS: 1e-14; KAPPA: 0.2; KP: 2.07189e-05; MJSW: 0.33; PB: 0.8; PHI: 0.6; TNOM: 27; TOX: 1e-07; U0: 600; SimulationGenericComponent: True; CBD: 0; CBS: 0; CGBO: 0; CGDO: 0; CGSO: 0; CJ: 0; CJSW: 0; DELTA: 0; DELVTO: 0; ETA: 0; GAMMA: 0; INPUT_DELTA: 0; JS: 0; KF: 0; LD: 0; MJ: 0.5; NFS: 0; NSS: 0; NSUB: 0; RD: 0; RS: 0; RSH: 0; THETA: 0; TPG: 0; VMAX: 0; VTO: 0; WD: 0; XD: 0; XJ: 0; XL: 0; XW: 0
simulation model NMOSFET_Level3 (MOS3)
pins: 1 D, 2 G, 3 S, 4 B

## MOSFET N-ch Lev4
designator M?, comment N-channel MOSFET BSIM1 Model  (value not drawn)
AF: 1; CGBO: 0; PB: 0.1; SimulationGenericComponent: True; CGDO: 0; CGSO: 0; CJ: 0; CJSW: 0; DELL: 0; DL: 0; DW: 0; ETA: 0; JS: 0; K1: 0; K2: 0; KF: 0; LETA: 0; LK1: 0; LK2: 0; LMUS: 0; LN0: 0; LNB: 0; LND: 0; LPHI: 0; LU0: 0; LU1: 0; LVFB: 0; LX2E: 0; LX2MS: 0; LX2MZ: 0; LX2U0: 0; LX2U1: 0; LX3E: 0; LX3MS: 0; LX3U1: 0; MJ: 0; MJSW: 0; MUS: 0; MUZ: 0; N0: 0; NB: 0; ND: 0; PBSW: 0.1; PHI: 0; RSH: 0; TEMP: 0; TOX: 0; U0: 0; U1: 0; VDD: 0; VFB: 0; WDF: 0; WETA: 0; WK1: 0; WK2: 0; WMUS: 0; WN0: 0; WNB: 0; WND: 0; WPHI: 0; WU0: 0; WU1: 0; WVFB: 0; WX2E: 0; WX2MS: 0; WX2MZ: 0; WX2U0: 0; WX2U1: 0; WX3E: 0; WX3MS: 0; WX3U1: 0; X2E: 0; X2MS: 0; X2MZ: 0; X2U0: 0; X2U1: 0; X3E: 0; X3MS: 0; X3U1: 0; XPART: 0
simulation model NMOSFET_BSIM1 (BSIM1)
pins: 1 D, 2 G, 3 S, 4 B

## MOSFET N-ch Lev5
designator M?, comment N-channel MOSFET BSIM2 Model  (value not drawn)
AF: 0; K1: 0.8; MU0: 400; MU20: 1.5; MU30: 10; MUS0: 500; N0: 1.4; NB: 0.5; PB: 0.1; PHI: 0.75; TEMP: 27; TOX: 0.03; UA0: 0.2; VBB: 5; VFB: -1; VGLOW: -0.15; VOF0: 1.8; SimulationGenericComponent: True; AI0: 0; AIB: 0; BI0: 0; BIB: 0; CGBO: 0; CGDO: 0; CGSO: 0; CJ: 0; CJSW: 0; DELL: 0; DL: 0; DW: 0; ETA0: 0; ETAB: 0; JS: 0; K2: 0; KF: 0; LAI0: 0; LAIB: 0; LBI0: 0; LBIB: 0; LETA0: 0; LETAB: 0; LK1: 0; LK2: 0; LMU0B: 0; LMU20: 0; LMU2B: 0; LMU2G: 0; LMU30: 0; LMU3B: 0; LMU3G: 0; LMU40: 0; LMU4B: 0; LMU4G: 0; LMUS0: 0; LMUSB: 0; LN0: 0; LNB: 0; LND: 0; LPHI: 0; LU10: 0; LU1B: 0; LU1D: 0; LUA0: 0; LUAB: 0; LUB0: 0; LUBB: 0; LVFB: 0; LVGHIGH: 0; LVGLOW: 0; LVOF0: 0; LVOFB: 0; LVOFD: 0; MJ: 0; MJSW: 0; MU0B: 0; MU2B: 0; MU2G: 0; MU3B: 0; MU3G: 0; MU40: 0; MU4B: 0; MU4G: 0; MUSB: 0; ND: 0; PBSW: 0.1; RSH: 0; U10: 0.1; U1B: 0; U1D: 0; UAB: 0; UB0: 0; UBB: 0; VDD: 5; VGG: 5; VGHIGH: 0.2; VOFB: 0; VOFD: 0; WAI0: 0; WAIB: 0; WBI0: 0; WBIB: 0; WDF: 10; WETA0: 0; WETAB: 0; WK1: 0; WK2: 0; WMU0B: 0; WMU20: 0; WMU2B: 0; WMU2G: 0; WMU30: 0; WMU3B: 0; WMU3G: 0; WMU40: 0; WMU4B: 0; WMU4G: 0; WMUS0: 0; WMUSB: 0; WN0: 0; WNB: 0; WND: 0; WPHI: 0; WU10: 0; WU1B: 0; WU1D: 0; WUA0: 0; WUAB: 0; WUB0: 0; WUBB: 0; WVFB: 0; WVGHIGH: 0; WVGLOW: 0; WVOF0: 0; WVOFB: 0; WVOFD: 0; XPART: 0
simulation model NMOSFET_BSIM2 (BSIM1)
pins: 1 D, 2 G, 3 S, 4 B

## MOSFET N-ch Lev6
designator M?, comment N-channel MOSFET MOS6 Model  (value not drawn)
CBD: 0; FC: 0.5; IS: 1e-14; KC: 5e-05; KV: 2; NC: 1; PB: 0.8; PHI: 0.6; TNOM: 300.15; SimulationGenericComponent: True; CBS: 0; CGBO: 0; CGDO: 0; CGSO: 0; CJ: 0; CJSW: 0; GAMMA: 0; GAMMA1: 0; JS: 0; LAMBDA: 0; LAMBDA0: 0; LAMBDA1: 0; LD: 0; MJ: 0.5; MJSW: 0.5; NSS: 0; NSUB: 0; NV: 0.5; NVTH: 0.5; RD: 0; RS: 0; RSH: 0; SIGMA: 0; TOX: 0; TPG: 0; U0: 0; VTO: 0
simulation model NMOSFET_Level6 (MOS6)
pins: 1 D, 2 G, 3 S, 4 B

## MOSFET N-ch Lev8
designator M?, comment N-channel MOSFET BSIM3v0 v3.0 Model  (value not drawn)
A0: 1; A1: 0; AT: 33000; BETA0: 30; CAPMOD: 3; CDSC: 0.00024; CF: 7.29897e-11; CGDO: 2.07188e-10; CJ: 0.0005; CJSW: 5e-10; CKAPPA: 0.6; CLC: 1e-07; DELTA: 0.01; DROUT: 0.56; DVT0: 2.2; DVT1: 0.53; DVT1W: 5.3e06; DVT2: -0.032; ELM: 5; EM: 4.1e07; ETA0: 0.08; ETAB: -0.07; IJTH: 0.1; JS: 0.0001; K3: 80; KETA: -0.047; KT1: -0.11; KT2: 0.022; LETAB: -0; MJ: 0.5; MJSW: 0.33; MOIN: 15; NCH: 1.7e17; NLX: 1.74e-07; NOIA: 1e20; NOIB: 50000; NOIC: -1.4e-12; NSUB: 6e16; PCLM: 1.3; PDIBLC1: 0.39; PDIBLC2: 0.0086; PSCBE1: 4.24e08; PSCBE2: 1e-05; TNOM: 300.15; TOX: 1.5e-08; U0: 0.067; UA: 2.25e-09; UA1: 4.31e-09; UB: 5.87e-19; UB1: -7.61e-18; UC: -4.65e-11; UC1: -5.6e-11; UTE: -1.5; VBD_MAX: 1e99; VBM: -3; VFBCV: -1; VOFF: -0.08; VSAT: 80000; VTH0: 0.7; W0: 2.5e-06; XJ: 1.5e-07; XT: 1.55e-07; SimulationGenericComponent: True; A2: 1; ACDE: 1; ACM: 0; AF: 1; AGS: 0; ALPHA0: 0; ALPHA1: 0; B0: 0; B1: 0; BINUNIT: 1; CALCACM: 0; CDSCB: 0; CDSCD: 0; CGBO: 0; CGDL: 0; CGSL: 0; CGSO: 2.07188e-10; CIT: 0; CJSWG: 5e-10; CLE: 0.6; DLC: 0; DSUB: 0.56; DVT0W: 0; DVT2W: -0.032; DWB: 0; DWC: 0; DWG: 0; EF: 1; GAMMA1: 0; GAMMA2: 0; HDIF: 0; JSW: 0; K1: 0; K2: 0; K3B: 0; KF: 0; KT1L: 0; LA0: 0; LA1: 0; LA2: 0; LACDE: 0; LAGS: 0; LALPHA0: 0; LALPHA1: 0; LAT: 0; LB0: 0; LB1: 0; LBETA0: 0; LCDSC: 0; LCDSCB: 0; LCDSCD: 0; LCF: 0; LCGDL: 0; LCGSL: 0; LCIT: 0; LCKAPPA: 0; LCLC: 0; LCLE: 0; LD: 0; LDELTA: 0; LDIF: 0; LDROUT: 0; LDSUB: 0; LDVT0: 0; LDVT0W: 0; LDVT1: 0; LDVT1W: 0; LDVT2: 0; LDVT2W: 0; LDWB: 0; LDWG: 0; LELM: 0; LETA0: 0; LGAMMA1: 0; LGAMMA2: 0; LINT: 0; LINTNOI: 0; LK1: 0; LK2: 0; LK3: 0; LK3B: 0; LKETA: 0; LKT1: 0; LKT1L: 0; LKT2: 0; LL: 0; LLC: 0; LLN: 1; LMAX: 1; LMIN: 0; LMOIN: 0; LNCH: 0; LNFACTOR: 0; LNGATE: 0; LNLX: 0; LNOFF: 0; LNSUB: 0; LPCLM: 0; LPDIBLC1: 0; LPDIBLC2: 0; LPDIBLCB: 0; LPRT: 0; LPRWB: 0; LPRWG: 0; LPSCBE1: 0; LPSCBE2: 0; LPVAG: 0; LRDSW: 0; LU0: 0; LUA: 0; LUA1: 0; LUB: 0; LUB1: 0; LUC: 0; LUC1: 0; LUTE: 0; LVBM: 0; LVBX: 0; LVFB: 0; LVFBCV: 0; LVOFF: 0; LVOFFCV: 0; LVSAT: 0; LVTH0: 0; LW: 0; LW0: 0; LWC: 0; LWL: 0; LWLC: 0; LWN: 1; LWR: 0; LXJ: 0; LXT: 0; MJSWG: 0.33; MOBMOD: 1; NFACTOR: 1; NGATE: 0; NJ: 1; NOFF: 1; NOIMOD: 1; PA0: 0; PA1: 0; PA2: 0; PACDE: 0; PAGS: 0; PALPHA0: 0; PALPHA1: 0; PARAMCHK: 0; PAT: 0; PB: 1; PB0: 0; PB1: 0; PBETA0: 0; PBSW: 1; PBSWG: 1; PCDSC: 0; PCDSCB: 0; PCDSCD: 0; PCF: 0; PCGDL: 0; PCGSL: 0; PCIT: 0; PCKAPPA: 0; PCLC: 0; PCLE: 0; PDELTA: 0; PDIBLCB: 0; PDROUT: 0; PDSUB: 0; PDVT0: 0; PDVT0W: 0; PDVT1: 0; PDVT1W: 0; PDVT2: 0; PDVT2W: 0; PDWB: 0; PDWG: 0; PELM: 0; PETA0: 0; PETAB: 0; PGAMMA1: 0; PGAMMA2: 0; PK1: 0; PK2: 0; PK3: 0; PK3B: 0; PKETA: 0; PKT1: 0; PKT1L: 0; PKT2: 0; PMOIN: 0; PNCH: 0; PNFACTOR: 0; PNGATE: 0; PNLX: 0; PNOFF: 0; PNSUB: 0; PPCLM: 0; PPDIBLC1: 0; PPDIBLC2: 0; PPDIBLCB: 0; PPRT: 0; PPRWB: 0; PPRWG: 0; PPSCBE1: 0; PPSCBE2: 0; PPVAG: 0; PRDSW: 0; PRT: 0; PRWB: 0; PRWG: 0; PU0: 0; PUA: 0; PUA1: 0; PUB: 0; PUB1: 0; PUC: 0; PUC1: 0; PUTE: 0; PVAG: 0; PVBM: 0; PVBX: 0; PVFB: 0; PVFBCV: 0; PVOFF: 0; PVOFFCV: 0; PVSAT: 0; PVTH0: 0; PW0: 0; PWR: 0; PXJ: 0; PXT: 0; RD: 0; RDC: 0; RDSW: 0; RS: 0; RSC: 0; RSH: 0; TCJ: 0; TCJSW: 0; TCJSWG: 0; TOXM: 1.5e-08; TPB: 0; TPBSW: 0; TPBSWG: 0; VBDR_MAX: 1e99; VBS_MAX: 1e99; VBSR_MAX: 1e99; VBX: 0; VDS_MAX: 1e99; VERSION: 3.3.0; VFB: 0; VGB_MAX: 1e99; VGBR_MAX: 1e99; VGD_MAX: 1e99; VGDR_MAX: 1e99; VGS_MAX: 1e99; VGSR_MAX: 1e99; VOFFCV: 0; WA0: 0; WA1: 0; WA2: 0; WACDE: 0; WAGS: 0; WALPHA0: 0; WALPHA1: 0; WAT: 0; WB0: 0; WB1: 0; WBETA0: 0; WCDSC: 0; WCDSCB: 0; WCDSCD: 0; WCF: 0; WCGDL: 0; WCGSL: 0; WCIT: 0; WCKAPPA: 0; WCLC: 0; WCLE: 0; WDELTA: 0; WDROUT: 0; WDSUB: 0; WDVT0: 0; WDVT0W: 0; WDVT1: 0; WDVT1W: 0; WDVT2: 0; WDVT2W: 0; WDWB: 0; WDWG: 0; WELM: 0; WETA0: 0; WETAB: 0; WGAMMA1: 0; WGAMMA2: 0; WINT: 0; WK1: 0; WK2: 0; WK3: 0; WK3B: 0; WKETA: 0; WKT1: 0; WKT1L: 0; WKT2: 0; WL: 0; WLC: 0; WLN: 1; WMAX: 1; WMIN: 0; WMLT: 1; WMOIN: 0; WNCH: 0; WNFACTOR: 0; WNGATE: 0; WNLX: 0; WNOFF: 0; WNSUB: 0; WPCLM: 0; WPDIBLC1: 0; WPDIBLC2: 0; WPDIBLCB: 0; WPRT: 0; WPRWB: 0; WPRWG: 0; WPSCBE1: 0; WPSCBE2: 0; WPVAG: 0; WR: 1; WRDSW: 0; WU0: 0; WUA: 0; WUA1: 0; WUB: 0; WUB1: 0; WUC: 0; WUC1: 0; WUTE: 0; WVBM: 0; WVBX: 0; WVFB: 0; WVFBCV: 0; WVOFF: 0; WVOFFCV: 0; WVSAT: 0; WVTH0: 0; WW: 0; WW0: 0; WWC: 0; WWL: 0; WWLC: 0; WWN: 1; WWR: 0; WXJ: 0; WXT: 0; XL: 0; XPART: 0; XTI: 3; XW: 0
simulation model NMOSFET_BSIM3v0 (BSIM3v0 v3.0)
pins: 1 D, 2 G, 3 S, 4 B